# Altium schematic symbol library 691 213 510 0xx.SchLib: 2 symbols
Pins are listed as number, name and electrical type; pins without a type are passive.

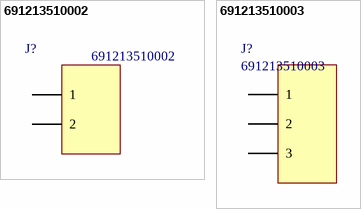
[diagram p0: symbols 691213510002 to 691213510003]

## 691213510002
designator J?
Horizontal Cable Entry with Rising Cage Clamp, Serie 2135 - 5.08 mm; Manufacturer: Wurth Elektronik; ComponentLink1 Description: Manufacturer; ComponentLink2 Description: Datasheet; NoPins: 2; ComponentLink1 URL: http://www.we-online.com; ComponentLink2 URL: http://katalog.we-online.de/em/datasheet/6912135100xx.pdf; Created By: Baojun Chen; Created Date: 6-Aug-15; PartNo: 691213510002; Value: 691213510002
footprint 691213510002 (Serie 2135 - 5.08 mm _ 2 pins)
pins: 1, 2

## 691213510003
designator J?
Horizontal Cable Entry with Rising Cage Clamp, Serie 2135 - 5.08 mm; Manufacturer: Wurth Elektronik; ComponentLink1 Description: Manufacturer; ComponentLink2 Description: Datasheet; NoPins: 3; ComponentLink1 URL: http://www.we-online.com; ComponentLink2 URL: http://katalog.we-online.de/em/datasheet/6912135100xx.pdf; Created By: Baojun Chen; Created Date: 6-Aug-15; PartNo: 691213510003; Value: 691213510003
footprint 691213510003 (Serie 2135 - 5.08 mm _ 3 pins)
pins: 1, 2, 3